# Altium schematic symbol library BLM41PG750SN1.SchLib: 1 symbol
Pins are listed as number, name and electrical type; pins without a type are passive.

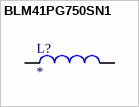
[diagram p0: symbol BLM41PG750SN1]

## BLM41PG750SN1
designator L?
75 Ohms @ 100MHz 1 Power Line Ferrite Bead 1806 _4516 Metric_ 3.5A 15mOhm; MP: BLM41PG750SN1L; MF: Murata; Price: None; Package: 4516 Murata; Value: *; Availability: Unavailable; SnapEDA_Link: https://www.snapeda.com/parts/BLM41PG750SN1L/Murata/view-part/104318/?ref=snap
footprint BEADC4516X180N
pins: 1, 2